# EAGLE library part 12401832E402A (library CONNECTORs)
USB - C (Type - C) USB 3.1 (USB 3.1 Gen 2, Superspeed+) Receptacle Connector 24 Position Surface Mount, Right Angle; Through Hole
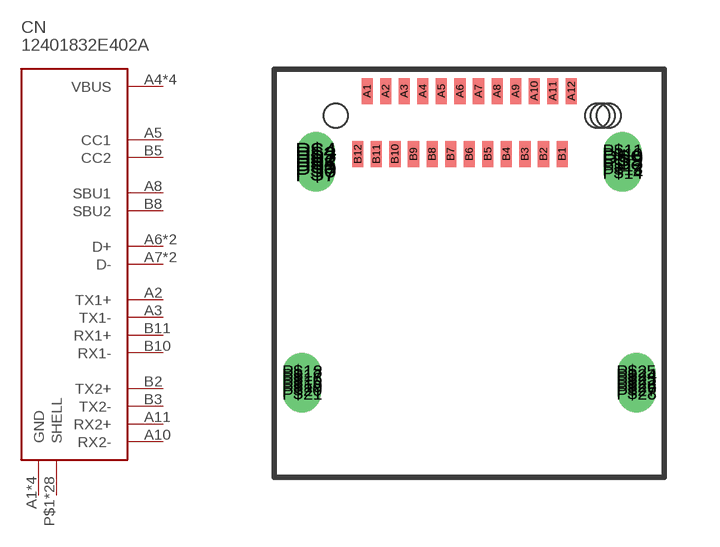
[diagram p58: symbol with the pads of 12401832E402A; footprint 12401832E402A]

Designator prefix CN

## 12401832E402A (DIGIKEY: 12401832E402ACT-ND; HEIGHT: 3.3; PRICE_PER: 2.17; VALUE: USB C CON)  [12401832E402A]
A1  GND
A2  TX1+
A3  TX1-
A4  VBUS
A5  CC1
A6  D+
A7  D-
A8  SBU1
A9  VBUS
A10  RX2-
A11  RX2+
A12  GND
B1  GND
B2  TX2+
B3  TX2-
B4  VBUS
B5  CC2
B6  D+
B7  D-
B8  SBU2
B9  VBUS
B10  RX1-
B11  RX1+
B12  GND
P$1  SHELL
P$2  SHELL
P$3  SHELL
P$4  SHELL
P$5  SHELL
P$6  SHELL
P$7  SHELL
P$8  SHELL
P$9  SHELL
P$10  SHELL
P$11  SHELL
P$12  SHELL
P$13  SHELL
P$14  SHELL
P$15  SHELL
P$16  SHELL
P$17  SHELL
P$18  SHELL
P$19  SHELL
P$20  SHELL
P$21  SHELL
P$22  SHELL
P$23  SHELL
P$24  SHELL
P$25  SHELL
P$26  SHELL
P$27  SHELL
P$28  SHELL

## Footprint 12401832E402A (pad centres in mm)
smd 0.3 x 0.7: A1 -2.75,4.91; A2 -2.25,4.91; A3 -1.75,4.91; A4 -1.25,4.91; A5 -0.75,4.91; A6 -0.25,4.91; A7 0.25,4.91; A8 0.75,4.91; A9 1.25,4.91; A10 1.75,4.91; A11 2.25,4.91; A12 2.75,4.91; B1 2.5,3.21; B2 2,3.21; B3 1.5,3.21; B4 1,3.21; B5 0.5,3.21; B6 0,3.21; B7 -0.5,3.21; B8 -1,3.21; B9 -1.5,3.21; B10 -2,3.21; B11 -2.5,3.21; B12 -3,3.21
drill 0.5: P$1 -4.13,3; P$2 -4.13,3.1; P$3 -4.13,3.2; P$4 -4.13,3.3; P$5 -4.13,2.9; P$6 -4.13,2.8; P$7 -4.13,2.7; P$8 4.13,3; P$9 4.13,3.1; P$10 4.13,3.2; P$11 4.13,3.3; P$12 4.13,2.9; P$13 4.13,2.8; P$14 4.13,2.7; P$15 -4.5,-2.95; P$16 -4.5,-2.85; P$17 -4.5,-2.75; P$18 -4.5,-2.65; P$19 -4.5,-3.05; P$20 -4.5,-3.15; P$21 -4.5,-3.25; P$22 4.5,-2.95; P$23 4.5,-2.85; P$24 4.5,-2.75; P$25 4.5,-2.65; P$26 4.5,-3.05; P$27 4.5,-3.15; P$28 4.5,-3.25
hole 0.65 at -3.6,4.25
hole 0.65 at 3.6,4.25
hole 0.65 at 3.75,4.25
hole 0.65 at 3.45,4.25